# EAGLE library part LLETHRAU_LINK (library ElectricNoodleBox)
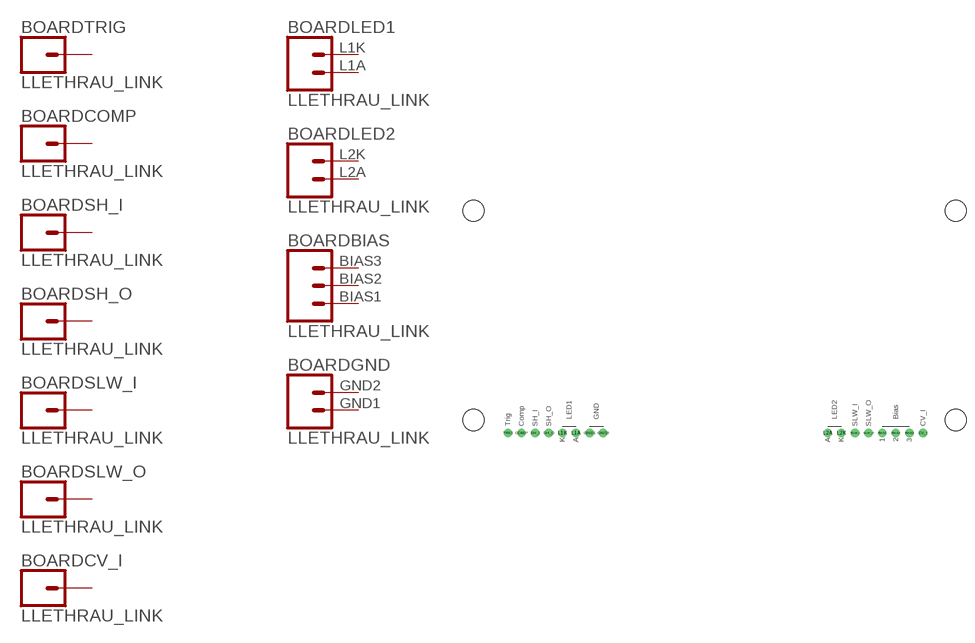
[diagram p31: symbol with the pads of LLETHRAU; footprint LLETHRAU]

Designator prefix BOARD; gates TRIG=CONN_01 COMP=CONN_01 SH_I=CONN_01 SH_O=CONN_01 SLW_I=CONN_01 SLW_O=CONN_01 CV_I=CONN_01 LED1=CONN_02 LED2=CONN_02 BIAS=CONN_03 GND=CONN_02

## LLETHRAU_LINK  [LLETHRAU]
BIAS1  BIAS:1  pas
BIAS2  BIAS:2  pas
BIAS3  BIAS:3  pas
COMP  COMP:1  pas
CV_I  CV_I:1  pas
GND1  GND:1  pas
GND2  GND:2  pas
L1A  LED1:1  pas
L1K  LED1:2  pas
L2A  LED2:1  pas
L2K  LED2:2  pas
SH_I  SH_I:1  pas
SH_O  SH_O:1  pas
SLW_I  SLW_I:1  pas
SLW_O  SLW_O:1  pas
TRIG  TRIG:1  pas

## Footprint LLETHRAU (pad centres in mm)
drill 1.016: BIAS1 81.28,2.54; BIAS2 83.82,2.54; BIAS3 86.36,2.54; COMP 13.97,2.54; CV_I 88.9,2.54; GND1 26.67,2.54; GND2 29.21,2.54; L1A 24.13,2.54; L1K 21.59,2.54; L2A 71.12,2.54; L2K 73.66,2.54; SH_I 16.51,2.54; SH_O 19.05,2.54; SLW_I 76.2,2.54; SLW_O 78.74,2.54; TRIG 11.43,2.54
hole 4 at 5,5
hole 4 at 95,5
hole 4 at 95,44
hole 4 at 5,44